# Altium schematic symbol library TPS2660 Efuse Symbol 1.SchLib: 1 symbol
Pins are listed as number, name and electrical type; pins without a type are passive.

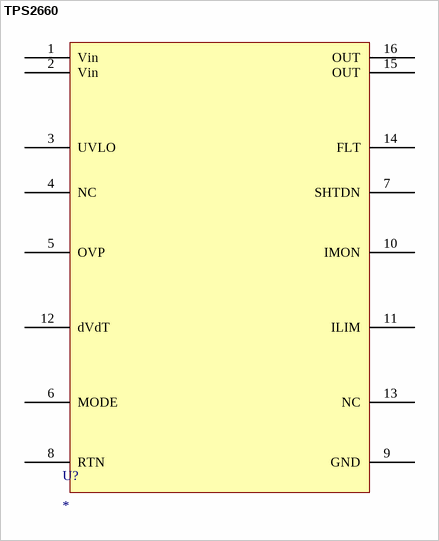
[diagram p0: symbol TPS2660]

## TPS2660
designator U?
TPS2660x, Efuse; ComponentLink1Description: DataSheet; ComponentLink1URL: https://www.ti.com/lit/ds/symlink/tps2660.pdf?ts=1762009075200
pins: 1 Vin, 2 Vin, 3 UVLO, 4 NC, 5 OVP, 6 MODE, 7 SHTDN, 8 RTN, 9 GND, 10 IMON, 11 ILIM, 12 dVdT, 13 NC, 14 FLT, 15 OUT, 16 OUT